# Altium schematic symbol library AD_lib_ISO.SchLib: 35 symbols
Pins are listed as number, name and electrical type; pins without a type are passive.

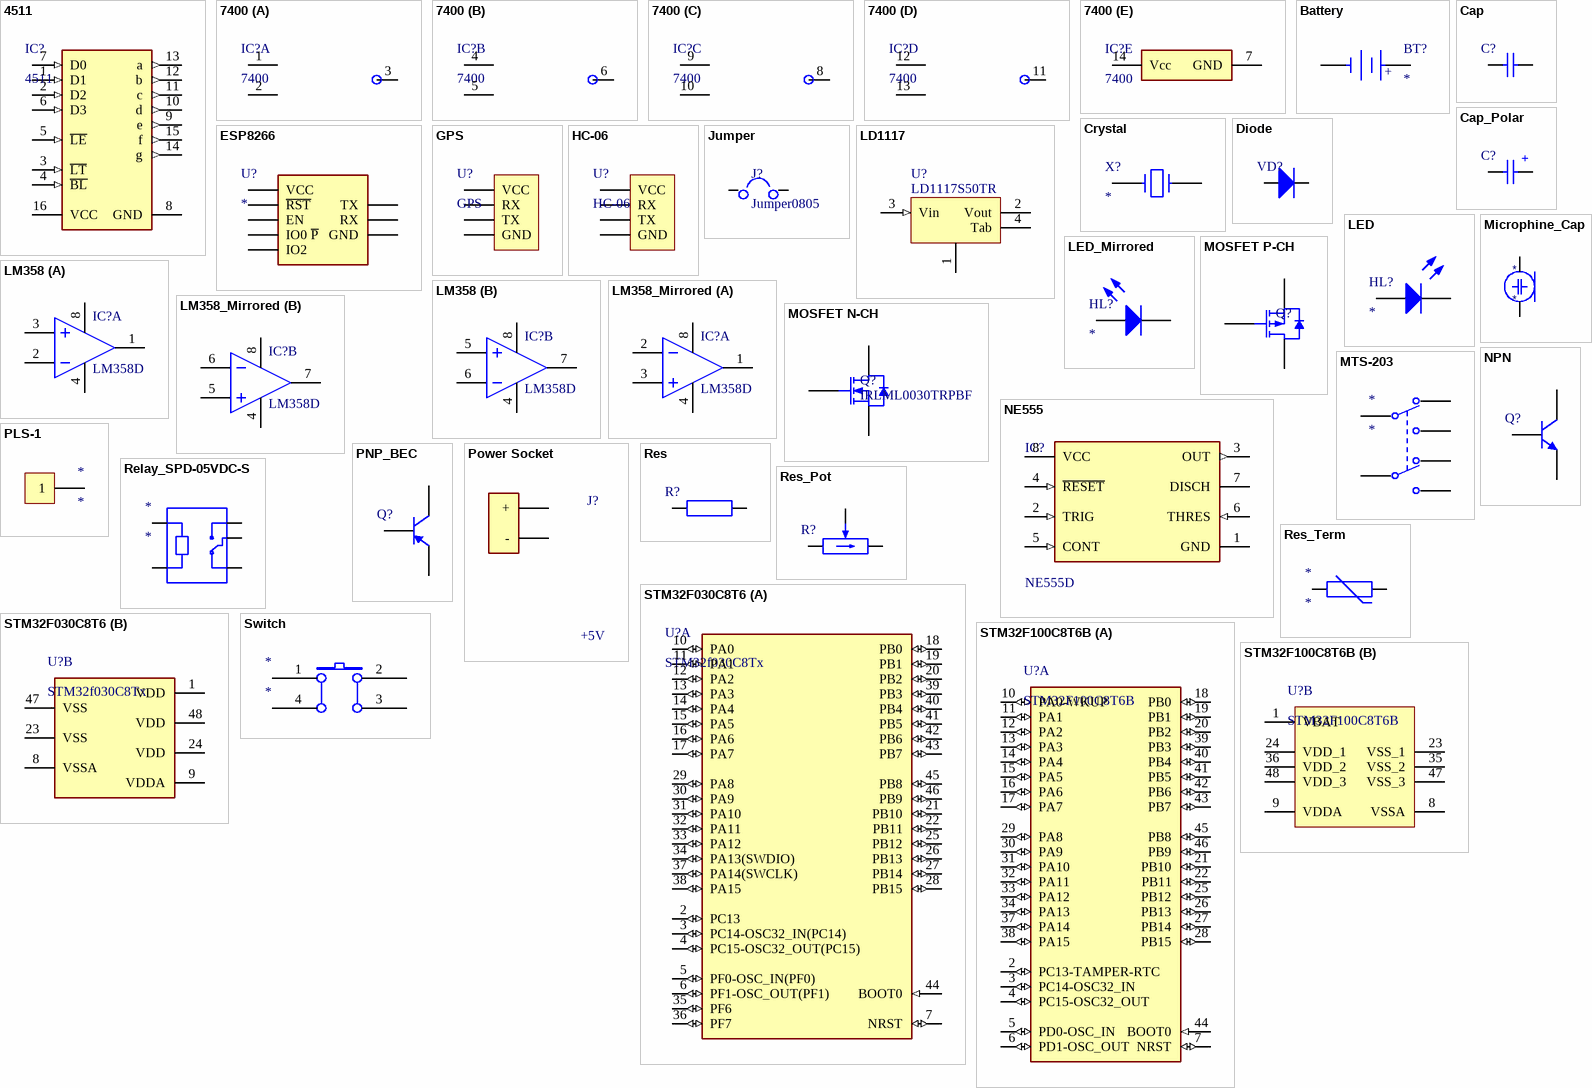
[diagram p0: symbols 4511 to Switch]

## 4511
designator IC?
BCD-to-7-Segment Decoder
footprint DIP-16
footprint SOIC-16
pins: 1 D1 (in), 2 D2 (in), 3 ~{LT} (in), 4 ~{BL} (in), 5 ~{LE} (in), 6 D3 (in), 7 D0 (in), 8 GND (power), 9 e (out), 10 d (out), 11 c (out), 12 b (out), 13 a (out), 14 g (out), 15 f (out), 16 VCC (power)

## 7400
designator IC?
4-2NAND
footprint SOIC-14
part A pins: 1 1A, 2 1B, 3 1Y
part B pins: 4 2A, 5 2B, 6 2Y
part C pins: 8 3Y, 9 3A, 10 3B
part D pins: 11 4Y, 12 4A, 13 4B
part E pins: 7 GND (power), 14 Vcc (power)

## Battery
designator BT?
footprint BAT_CR2032
footprint Power socket
footprint Power socket Mirrored
pins: G C, V A
text: +

## Cap
designator C?  (value not drawn)
footprint CAP-0805
footprint CAP-CER-DISK
pins: 1, 2

## Cap_Polar
designator C?  (value not drawn)
footprint CAP-SMD-E
footprint CAP-ELEC-5x11mm
pins: A, C
text: +

## Crystal
designator X?
footprint CRYSTAL_RTC
pins: 1, 2

## Diode
designator VD?  (value not drawn)
footprint DIODE-SMB (Molded Diode, 2-Leads, Body 4,40x3,55mm, IPC Medium Density)
footprint DIODE-MELF
footprint SOD-323FL
footprint DIODE-AXIS
pins: A, C

## ESP8266
designator U?
footprint ESP8266
pins: 1 GND, 2 TX, 3 IO2, 4 EN, 5 IO0 ~{P}, 6 ~{RST}, 7 RX, 8 VCC

## GPS
designator U?
footprint GPS
pins: G GND, R RX, T TX, V VCC

## HC-06
designator U?
Bluetooth
footprint Bluetooth
footprint Bluetooth HOR
pins: G GND, R RX, T TX, V VCC

## Jumper
designator J?, comment Jumper0805
footprint RES-0805 (Chip Resistor, 2-Leads, Body 2,00x1,25mm, IPC Medium Density)
footprint Jumper
pins: 1, 2

## LD1117
designator U?, comment LD1117S50TR
footprint SOT-223
pins: 1, 2 Vout (power), 3 Vin (in), 4 Tab (power)
2 alternate drawings of the same symbol

## LED
designator HL?
footprint LED_RED_5MM
pins: 1 C, 2 A

## LED_Mirrored
designator HL?
footprint LED_RED_5MM
pins: 1 C, 2 A

## LM358
designator IC?, comment LM358D
LM358; Manufacturer: Texas Instruments; Код: 10; Part Number: LM358D; Temperature: 0 C / + 70 C; Creation Date: 12.06.2019; Author: Maxim Tarasov
footprint SOIC-8
footprint DIP-8
pins on every part: 4 GND (power), 8 V+ (power)
part A pins: 1 OUTA, 2 INA-, 3 INA+
part B pins: 5 INB+, 6 INB-, 7 OUTB

## LM358_Mirrored
designator IC?, comment LM358D
LM358; Manufacturer: Texas Instruments; Код: 10; Part Number: LM358D; Temperature: 0 C / + 70 C; Creation Date: 12.06.2019; Author: Maxim Tarasov
footprint SOIC-8
footprint DIP-8
pins on every part: 4 GND (power), 8 V+ (power)
part A pins: 1 OUTA, 2 INA-, 3 INA+
part B pins: 5 INB+, 6 INB-, 7 OUTB

## Microphine_Cap
designator *
footprint Jumper
pins: 0, 1

## MOSFET N-CH
designator Q?, comment IRLML0030TRPBF
Manufacturer: Infineon Technologies; Transistor Polarity: N-Channel; Код: 32; Part Number: IRLML0030TRPBF; Creation Date: 12.06.2019; Author: Tarasov Maxim
footprint TO220
footprint TO220 - HORIZONTAL
pins: 1 G, 2 D, 3 S

## MOSFET P-CH
designator Q?  (value not drawn)
Part Number: IRLML0030TRPBF; Manufacturer: Infineon Technologies; Transistor Polarity: N-Channel; Код: 32; Creation Date: 12.06.2019; Author: Tarasov Maxim
footprint TO220 - HORIZONTAL
footprint TO220
pins: 1 G, 2 S, 3 D

## MTS-203
designator *
DPDT
footprint MTS-203
pins: 1, 2, 3, 4, 5, 6

## NE555
designator IC?, comment NE555D
Manufacturer: Texas Instruments; Код: 10; Part Number: NE555D; Temperature: 0 C / + 70 C; Creation Date: 12.06.2019; Author: Maxim Tarasov
footprint SOIC-8
footprint DIP-8
pins: 1 GND (power), 2 TRIG (in), 3 OUT (out), 4 ~{RESET} (in), 5 CONT (in), 6 THRES (in), 7 DISCH (oc), 8 VCC (power)

## NPN
designator Q?  (value not drawn)
pins: B, C, E

## PLS-1
designator *
footprint PLS-1
pins: 1

## PNP_BEC
designator Q?  (value not drawn)
footprint SOT-23-3
pins: 1, 2, 3

## Power Socket
designator J?, comment +5V
Part Number: 1981584-1; Manufacturer: TE Connectivity / AMP; Код: 14; VALUE: 5V; Temperature: 0 C / + 50 C; Creation Date: 19.06.2019; Author: Tarasov Maxim
footprint USB-Micro
footprint Power socket
footprint Power socket Mirrored
pins: G - (power), V + (power)

## Relay_SPD-05VDC-S
designator *
footprint Relay_SPD-05VDC-S
pins: A1, A2, COM, NC, NO

## Res
designator R?, comment 1k  (value not drawn)
Value: 1k
footprint Res-Axis
footprint RES-0805 (Chip Resistor, 2-Leads, Body 2,00x1,25mm, IPC Medium Density)
pins: 1, 2

## Res_Pot
designator R?  (value not drawn)
footprint res-pot
footprint RES-POT-2
pins: 1 CCW, 2 CW, 3 W

## Res_Term
designator *
pins: 1, 2

## STM32F030C8T6
designator U?, comment STM32f030C8Tx
footprint LQFP48
part A pins: 2 PC13 (io) "PC13/RTC_TAMP1,RTC_TS,RTC_OUT,WKUP2", 3 PC14-OSC32_IN(PC14) (io) "PC14-OSC32_IN(PC14)/OSC32_IN", 4 PC15-OSC32_OUT(PC15) (io) "PC15-OSC32_OUT(PC15)/OSC32_OUT", 5 PF0-OSC_IN(PF0) (io) "PF0-OSC_IN(PF0)/OSC_IN", 6 PF1-OSC_OUT(PF1) (io) "PF1-OSC_OUT(PF1)/OSC_OUT", 7 NRST (io) "Device reset input / internal reset output (active low)", 10 PA0 (io) "PA0/USART2_CTS/ADC_IN0,RTC_TAMP2,WKUP1", 11 PA1 (io) "PA1/USART2_RTS,EVENTOUT/ADC_IN1", 12 PA2 (io) "PA2/USART2_TX,TIM15_CH1/ADC_IN2", 13 PA3 (io) "PA3/USART2_RX,TIM15_CH2/ADC_IN3", 14 PA4 (io) "PA4/SPI1_NSS/USART2_CK,TIM14_CH1/ADC_IN4", 15 PA5 (io) "PA5/SPI1_SCK/ADC_IN5", 16 PA6 (io) "PA6/SPI1_MISO,TIM3_CH1,TIM1_BKIN,TIM16_CH1,EVENTOUT/ADC_IN6", 17 PA7 (io) "PA7/SPI1_MOSI,TIM3_CH2,TIM14_CH1,TIM1_CH1N,TIM17_CH1,EVENTOUT/ADC_IN7", 18 PB0 (io) "PB0/TIM3_CH3,TIM1_CH2N,EVENTOUT/ADC_IN8", 19 PB1 (io) "PB1/TIM3_CH4,TIM14_CH1,TIM1_CH3N/ADC_IN9", 20 PB2 (io), 21 PB10 (io) "PB10/I2C2_SCL", 22 PB11 (io) "PB11/I2C2_SDA,EVENTOUT", 25 PB12 (io) "PB12/SPI2_NSS,TIM1_BKIN,EVENTOUT", 26 PB13 (io) "PB13/SPI2_SCK,TIM1_CH1N", 27 PB14 (io) "PB14/SPI2_MISO,TIM1_CH2N,TIM15_CH1", 28 PB15 (io) "PB15/SPI2_MOSI,TIM1_CH3N,TIM15_CH1N,TIM15_CH2/RTC_REFIN", 29 PA8 (io) "PA8/USART1_CK,TIM1_CH1,EVENTOUT,MCO", 30 PA9 (io) "PA9/USART1_TX,TIM1_CH2,TIM15_BKIN", 31 PA10 (io) "PA10/USART1_RX,TIM1_CH3,TIM17_BKIN", 32 PA11 (io) "PA11/USART1_CTS,TIM1_CH4,EVENTOUT", 33 PA12 (io) "PA12/USART1_RTS,TIM1_ETR,EVENTOUT", 34 PA13(SWDIO) (io) "PA13(SWDIO)/IR_OUT,SWDIO", 35 PF6 (io) "PF6/I2C2_SCL", 36 PF7 (io) "PF7/I2C2_SDA", 37 PA14(SWCLK) (io) "PA14(SWCLK)/USART2_TX,SWCLK", 38 PA15 (io) "PA15/SPI1_NSS,USART2_RX,EVENTOUT", 39 PB3 (io) "PB3/SPI1_SCK,EVENTOUT", 40 PB4 (io) "PB4/SPI1_MISO,TIM3_CH1,EVENTOUT", 41 PB5 (io) "PB5/SPI1_MOSI,I2C1_SMBA,TIM16_BKIN,TIM3_CH2", 42 PB6 (io) "PB6/I2C1_SCL,USART1_TX,TIM16_CH1N", 43 PB7 (io) "PB7/I2C1_SDA,USART1_RX,TIM17_CH1N", 44 BOOT0 (in) "Boot memory selection", 45 PB8 (io) "PB8/I2C1_SCL,TIM16_CH1", 46 PB9 (io) "PB9/I2C1_SDA,IR_OUT,TIM17_CH1,EVENTOUT"
part B pins: 1 VDD (power) "PB9/I2C1_SDA,IR_OUT,TIM17_CH1,EVENTOUT", 8 VSSA (power) "PB9/I2C1_SDA,IR_OUT,TIM17_CH1,EVENTOUT", 9 VDDA (power) "PB9/I2C1_SDA,IR_OUT,TIM17_CH1,EVENTOUT", 23 VSS (power) "PB9/I2C1_SDA,IR_OUT,TIM17_CH1,EVENTOUT", 24 VDD (power) "PB9/I2C1_SDA,IR_OUT,TIM17_CH1,EVENTOUT", 47 VSS (power) "PB9/I2C1_SDA,IR_OUT,TIM17_CH1,EVENTOUT", 48 VDD (power) "PB9/I2C1_SDA,IR_OUT,TIM17_CH1,EVENTOUT"

## STM32F100C8T6B
designator U?
ARM Cortex-M3 32-bit MCU, 64 KB Flash, 8 KB Internal RAM, 37 I/Os, 48-pin LQFP, -40 to 85 degC, Tray; D/A Converter: 2x12-bit (2 Channel); Internal RAM Size (kB): 8; Supply Voltage(Vcc) min (V): 2; Operating Frequency(F) (Processor speed) (MHz): 24; A/D Converter: 1x12-bit (10 Channel); I/Os (High Current): 37; FLASH Size (Prog) (kB): 64; DatasheetVersion: Rev. 7; ComponentLink2Description: Datasheet; Core: ARM Cortex-M3; ComponentLink3Description: Package Specification; Mounting Technology: Surface Mount; PartNumber: STM32F100C8T6B; PackageReference: LQFP48; ComponentLink3URL: http://www.st.com/st-web-ui/static/active/en/resource/technical/document/datasheet/DM00058181.pdf; PackageDescription: 48-Pin Low Profile Quad Flat Package, 7 x 7 mm Body, 0.5 mm Pitch; ComponentLink1Description: Manufacturer URL; PackageVersion: Rev. 6, 06/2013; ComponentLink2URL: http://www.st.com/st-web-ui/static/active/en/resource/technical/document/datasheet/CD00251732.pdf; Packing: Tray; ComponentLink1URL: http://www.st.com/web/en/home.html
footprint LQFP48
part A pins: 2 PC13-TAMPER-RTC (io) "PC13-TAMPER-RTC/PC13/TAMPER-RTC", 3 PC14-OSC32_IN (io) "PC14-OSC32_IN/PC14/OSC32_IN", 4 PC15-OSC32_OUT (io) "PC15-OSC32_OUT/PC15/OSC32_OUT", 5 PD0-OSC_IN (io) "PD0/OSC_IN", 6 PD1-OSC_OUT (io) "PD1/OSC_OUT", 7 NRST (io), 10 PA0-WKUP (io) "PA0-WKUP/PA0/WKUP/USART2_CTS/ADC1_IN0/TIM2_CH1_ETR", 11 PA1 (io) "PA1/USART2_RTS/ADC1_IN1/TIM2_CH2", 12 PA2 (io) "PA2/USART2_TX/ADC1_IN2/TIM2_CH3/TIM15_CH1", 13 PA3 (io) "PA3/USART2_RX/ADC1_IN3/TIM2_CH4/TIM15_CH2", 14 PA4 (io) "PA4/SPI1_NSS/ADC1_IN4/USART2_CK/DAC1_OUT", 15 PA5 (io) "PA5/SPI1_SCK/ADC1_IN5/DAC2_OUT", 16 PA6 (io) "PA6/SPI1_MISO/ADC1_IN6/TIM3_CH1/TIM1_BKIN/TIM16_CH1", 17 PA7 (io) "PA7/SPI1_MOSI/ADC1_IN7/TIM3_CH2/TIM1_CH1N/TIM17_CH1", 18 PB0 (io) "PB0/ADC1_IN8/TIM3_CH3/TIM1_CH2N", 19 PB1 (io) "PB1/ADC1_IN9/TIM3_CH4/TIM1_CH3N", 20 PB2 (io) "PB2/BOOT1", 21 PB10 (io) "PB10/I2C2_SCL/USART3_TX/TIM2_CH3/HDMI_CEC", 22 PB11 (io) "PB11/I2C2_SDA/USART3_RX/TIM2_CH4", 25 PB12 (io) "PB12/SPI2_NSS/I2C2_SMBA/TIM1_BKIN/USART3_CK", 26 PB13 (io) "PB13/SPI2_SCK/TIM1_CH1N/USART3_CTS", 27 PB14 (io) "PB14/SPI2_MISO/TIM1_CH2N/USART3_RTS/TIM15_CH1", 28 PB15 (io) "PB15/SPI2_MOSI/TIM1_CH3N/TIM15_CH1N/TIM15_CH2", 29 PA8 (io) "PA8/USART1_CK/MCO/TIM1_CH1", 30 PA9 (io) "PA9/USART1_TX/TIM1_CH2/TIM15_BKIN", 31 PA10 (io) "PA10/USART1_RX/TIM1_CH3/TIM17_BKIN", 32 PA11 (io) "PA11/USART1_CTS/TIM1_CH4", 33 PA12 (io) "PA12/USART1_RTS/TIM1_ETR", 34 PA13 (io) "PA13/JTMS-SWDIO", 37 PA14 (io) "PA14/JTCK/SWCLK", 38 PA15 (io) "PA15/JTDI/TIM2_CH1_ETR/SPI1_NSS", 39 PB3 (io) "PB3/JTDO/TIM2_CH2/TRACESWO/SPI1_SCK", 40 PB4 (io) "PB4/NJTRST/TIM3_CH1/SPI1_MISO", 41 PB5 (io) "PB5/I2C1_SMBA/TIM16_BKIN/TIM3_CH2/SPI1_MOSI", 42 PB6 (io) "PB6/I2C1_SCL/TIM4_CH1/TIM16_CH1N/USART1_TX", 43 PB7 (io) "PB7/I2C1_SDA/TIM17_CH1N/TIM4_CH2/USART1_RX", 44 BOOT0 (in), 45 PB8 (io) "PB8/TIM4_CH3/TIM16_CH1/CEC/I2C1_SCL", 46 PB9 (io) "PB9/TIM4_CH4/TIM17_CH1/I2C1_SDA"
part B pins: 1 VBAT (power), 8 VSSA (power), 9 VDDA (power), 23 VSS_1 (power), 24 VDD_1 (power), 35 VSS_2 (power), 36 VDD_2 (power), 47 VSS_3 (power), 48 VDD_3 (power)

## Switch
designator *
pins: 1 A0, 2 B0, 3 B1, 4 A1

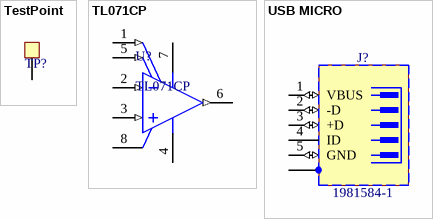
[diagram p1: symbols TestPoint to USB MICRO]

## TestPoint
designator TP?  (value not drawn)
footprint TestPoint
pins: 0

## TL071CP
designator U?
Low-Noise JFET-Input General-Purpose Operational Amplifier, 7 to 36 V, 0 to 70 degC, 8-pin DIP (P8), Pb-Free (RoHS); Manufacturer: Texas Instruments; Total Supply Voltage(Min)(+5V is 5, +/-5V is 10): 7; Iq per channel(Max)(mA): 2.5; GBW(Typ)(MHz): 3; Vio (25C)(Max)(mV): 10; CMRR(Min)(dB): 70; Rating: Military; Vn at 1kHz(Typ)(nV/rtHz): 18; IIB(Max)(pA): 200; Number of Channels: 1; Sub Family: General Purpose Amplifier, High Supply Voltage Amplifier (>=30V); Total Supply Voltage(Max)(+5V is 5, +/-5V is 10): 36; Slew Rate(Typ)(V/us): 13; ComponentLink1Description: Manufacturer URL; PackageReference: P0008A; ComponentLink3Description: Package Specification; ComponentLink3URL: http://www.ti.com/litv/pdf/mpdi001b; Mounting Technology: Through Hole; ComponentLink2Description: Datasheet; ComponentLink2URL: http://www.ti.com/lit/ds/symlink/tl071.pdf; PartNumber: TL071CP; Eco-Plan: Pb-Free (RoHS); Offset Drift(Typ)(uV/C): 18; Code_JEDEC: MS-001; DatasheetVersion: SLOS080J; PackageVersion: 4040082/E, 04/2010; PackageDescription: 8-Pin Plastic In-Line, Body 9.59 x 6.35 mm, Pitch 2.54 mm; ComponentLink1URL: http://www.ti.com/
footprint DIP-8
pins: 1 OFFSET N1 (in), 2 IN- (in), 3 IN+ (in), 4 VCC- (power), 5 OFFSET N2 (in), 6 OUT (out), 7 VCC+ (power), 8 NC

## USB MICRO
designator J?, comment 1981584-1
Connectors REC TYPE AB; Manufacturer: TE Connectivity / AMP; Код: 14; Part Number: 1981584-1; Temperature: 0 C / + 50 C; Creation Date: 19.06.2019; Author: Tarasov Maxim
footprint USB-Micro
pins: 1 VBUS (io), 2 -D (io), 3 +D (io), 4 ID, 5 GND (io), 6 SH (power)